# EAGLE library part MMA8452Q (library MMA8452Q)
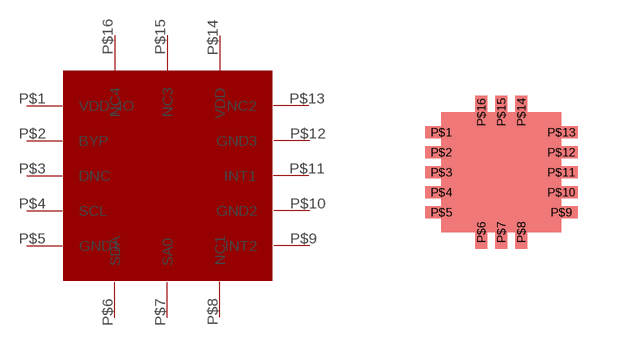
[diagram p0: symbol with the pads of MMA8452Q; footprint MMA8452Q]

Designator prefix -

## MMA8452QQFN-16  [MMA8452Q]
P$1  VDD_IO
P$2  BYP
P$3  DNC
P$4  SCL
P$5  GND1
P$6  SDA
P$7  SA0
P$8  NC1
P$9  INT2
P$10  GND2
P$11  INT1
P$12  GND3
P$13  NC2
P$14  VDD
P$15  NC3
P$16  NC4

## Footprint MMA8452Q (pad centres in mm)
smd 0.813 x 0.305: P$1 0,2.5; P$2 0,2; P$3 0,1.5; P$4 0,1; P$5 0,0.5; P$9 3,0.5; P$10 3,1; P$11 3,1.5; P$12 3,2; P$13 3,2.5
smd 0.305 x 0.813: P$6 1,0; P$7 1.5,0; P$8 2,0; P$14 2,3; P$15 1.5,3; P$16 1,3